# EAGLE library part RJ-12 (library LaunchFET)
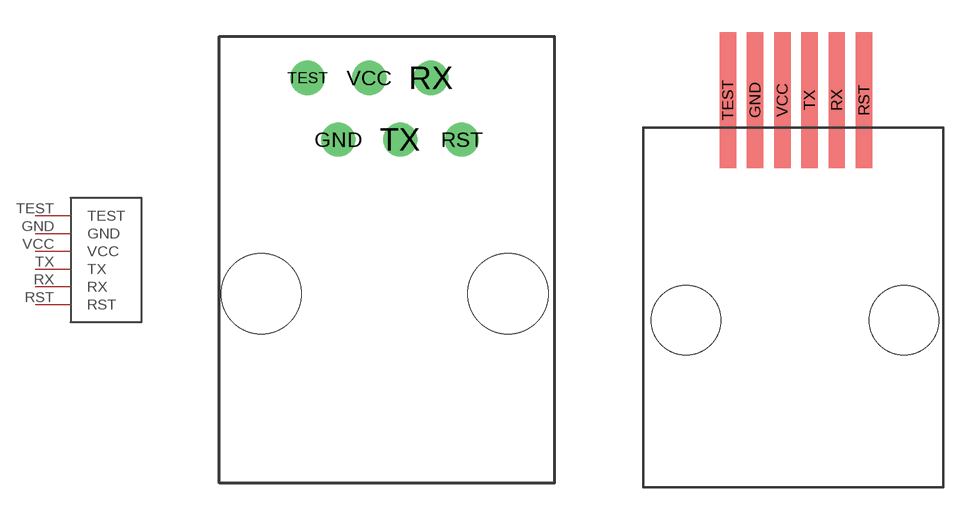
[diagram p1: symbol with the pads of MOLEX_RJ45_TH; footprints MOLEX_RJ45_TH, MOLEX_RJ45_SMD]

Designator prefix -

## RJ-12THR_HOLE  [MOLEX_RJ45_TH]
GND  GND
RST  RST
RX  RX
TEST  TEST
TX  TX
VCC  VCC

## RJ-12SMD (MODEL: 95501-6669)  [MOLEX_RJ45_SMD]
Pads as for MOLEX_RJ45_TH

## Footprint MOLEX_RJ45_TH (pad centres in mm)
drill 0.9: GND 3.175,6.35; RST 8.255,6.35; RX 6.985,8.89; TEST 1.905,8.89; TX 5.715,6.35; VCC 4.445,8.89
hole 3.3 at 0,0
hole 3.3 at 10.16,0

## Footprint MOLEX_RJ45_SMD (pad centres in mm)
smd 0.76 x 6.35: GND 3.22,10.27; RST 8.3,10.27; RX 7.03,10.27; TEST 1.95,10.27; TX 5.76,10.27; VCC 4.49,10.27
hole 3.25 at 0,0
hole 3.25 at 10.16,0